# Altium schematic symbol library SinOne.SchLib: 7 symbols
Pins are listed as number, name and electrical type; pins without a type are passive.

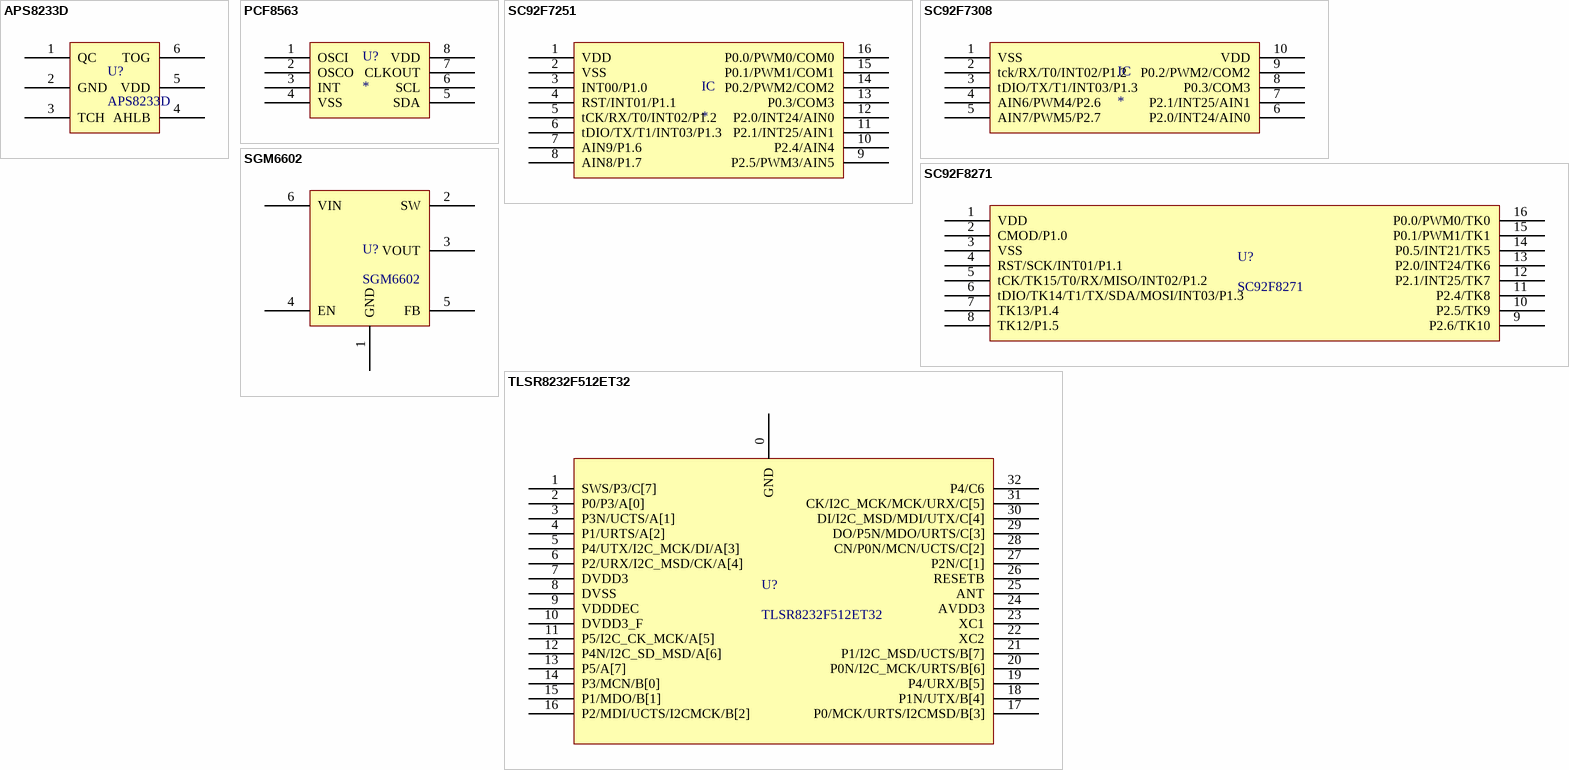
[diagram p0: symbols APS8233D to TLSR8232F512ET32]

## APS8233D
designator U?
pins: 1 QC, 2 GND, 3 TCH, 4 AHLB, 5 VDD, 6 TOG

## PCF8563
designator U?
pins: 1 OSCI, 2 OSCO, 3 INT, 4 VSS, 5 SDA, 6 SCL, 7 CLKOUT, 8 VDD

## SC92F7251
designator IC
SC92F7251
footprint SOP16 (Footprint not found)
pins: 1 VDD, 2 VSS, 3 INT00/P1.0, 4 RST/INT01/P1.1, 5 tCK/RX/T0/INT02/P1.2, 6 tDIO/TX/T1/INT03/P1.3, 7 AIN9/P1.6, 8 AIN8/P1.7, 9 P2.5/PWM3/AIN5, 10 P2.4/AIN4, 11 P2.1/INT25/AIN1, 12 P2.0/INT24/AIN0, 13 P0.3/COM3, 14 P0.2/PWM2/COM2, 15 P0.1/PWM1/COM1, 16 P0.0/PWM0/COM0

## SC92F7308
designator IC
SC92F7308
footprint MSOP10 (Footprint not found)
pins: 1 VSS, 2 tck/RX/T0/INT02/P1.2, 3 tDIO/TX/T1/INT03/P1.3, 4 AIN6/PWM4/P2.6 , 5 AIN7/PWM5/P2.7, 6 P2.0/INT24/AIN0, 7 P2.1/INT25/AIN1, 8 P0.3/COM3, 9 P0.2/PWM2/COM2, 10 VDD

## SC92F8271
designator U?
pins: 1 VDD, 2 CMOD/P1.0, 3 VSS, 4 RST/SCK/INT01/P1.1, 5 tCK/TK15/T0/RX/MISO/INT02/P1.2, 6 tDIO/TK14/T1/TX/SDA/MOSI/INT03/P1.3, 7 TK13/P1.4, 8 TK12/P1.5, 9 P2.6/TK10, 10 P2.5/TK9, 11 P2.4/TK8, 12 P2.1/INT25/TK7, 13 P2.0/INT24/TK6, 14 P0.5/INT21/TK5, 15 P0.1/PWM1/TK1, 16 P0.0/PWM0/TK0

## SGM6602
designator U?
pins: 1 GND, 2 SW, 3 VOUT, 4 EN, 5 FB, 6 VIN

## TLSR8232F512ET32
designator U?
pins: 0 GND, 1 SWS/P3/C[7], 2 P0/P3/A[0], 3 P3N/UCTS/A[1], 4 P1/URTS/A[2], 5 P4/UTX/I2C_MCK/DI/A[3], 6 P2/URX/I2C_MSD/CK/A[4], 7 DVDD3, 8 DVSS, 9 VDDDEC, 10 DVDD3_F, 11 P5/I2C_CK_MCK/A[5], 12 P4N/I2C_SD_MSD/A[6], 13 P5/A[7], 14 P3/MCN/B[0], 15 P1/MDO/B[1], 16 P2/MDI/UCTS/I2CMCK/B[2], 17 P0/MCK/URTS/I2CMSD/B[3], 18 P1N/UTX/B[4], 19 P4/URX/B[5], 20 P0N/I2C_MCK/URTS/B[6], 21 P1/I2C_MSD/UCTS/B[7], 22 XC2, 23 XC1, 24 AVDD3, 25 ANT, 26 RESETB, 27 P2N/C[1], 28 CN/P0N/MCN/UCTS/C[2], 29 DO/P5N/MDO/URTS/C[3], 30 DI/I2C_MSD/MDI/UTX/C[4], 31 CK/I2C_MCK/MCK/URX/C[5], 32 P4/C6